# Altium footprint library PCB Footprints.PcbLib: 316 footprints (part 3 of 21)
Each footprint in its own frame and in the unit in brackets; x right, y up, seen from the top. Pads: shape width x height; smd on the part's side, far side on the other; paste and mask are expansions set on the pad; w line width, h text height; cw(c..) or ccw(c..) is an arc to the next point about the centre after c.
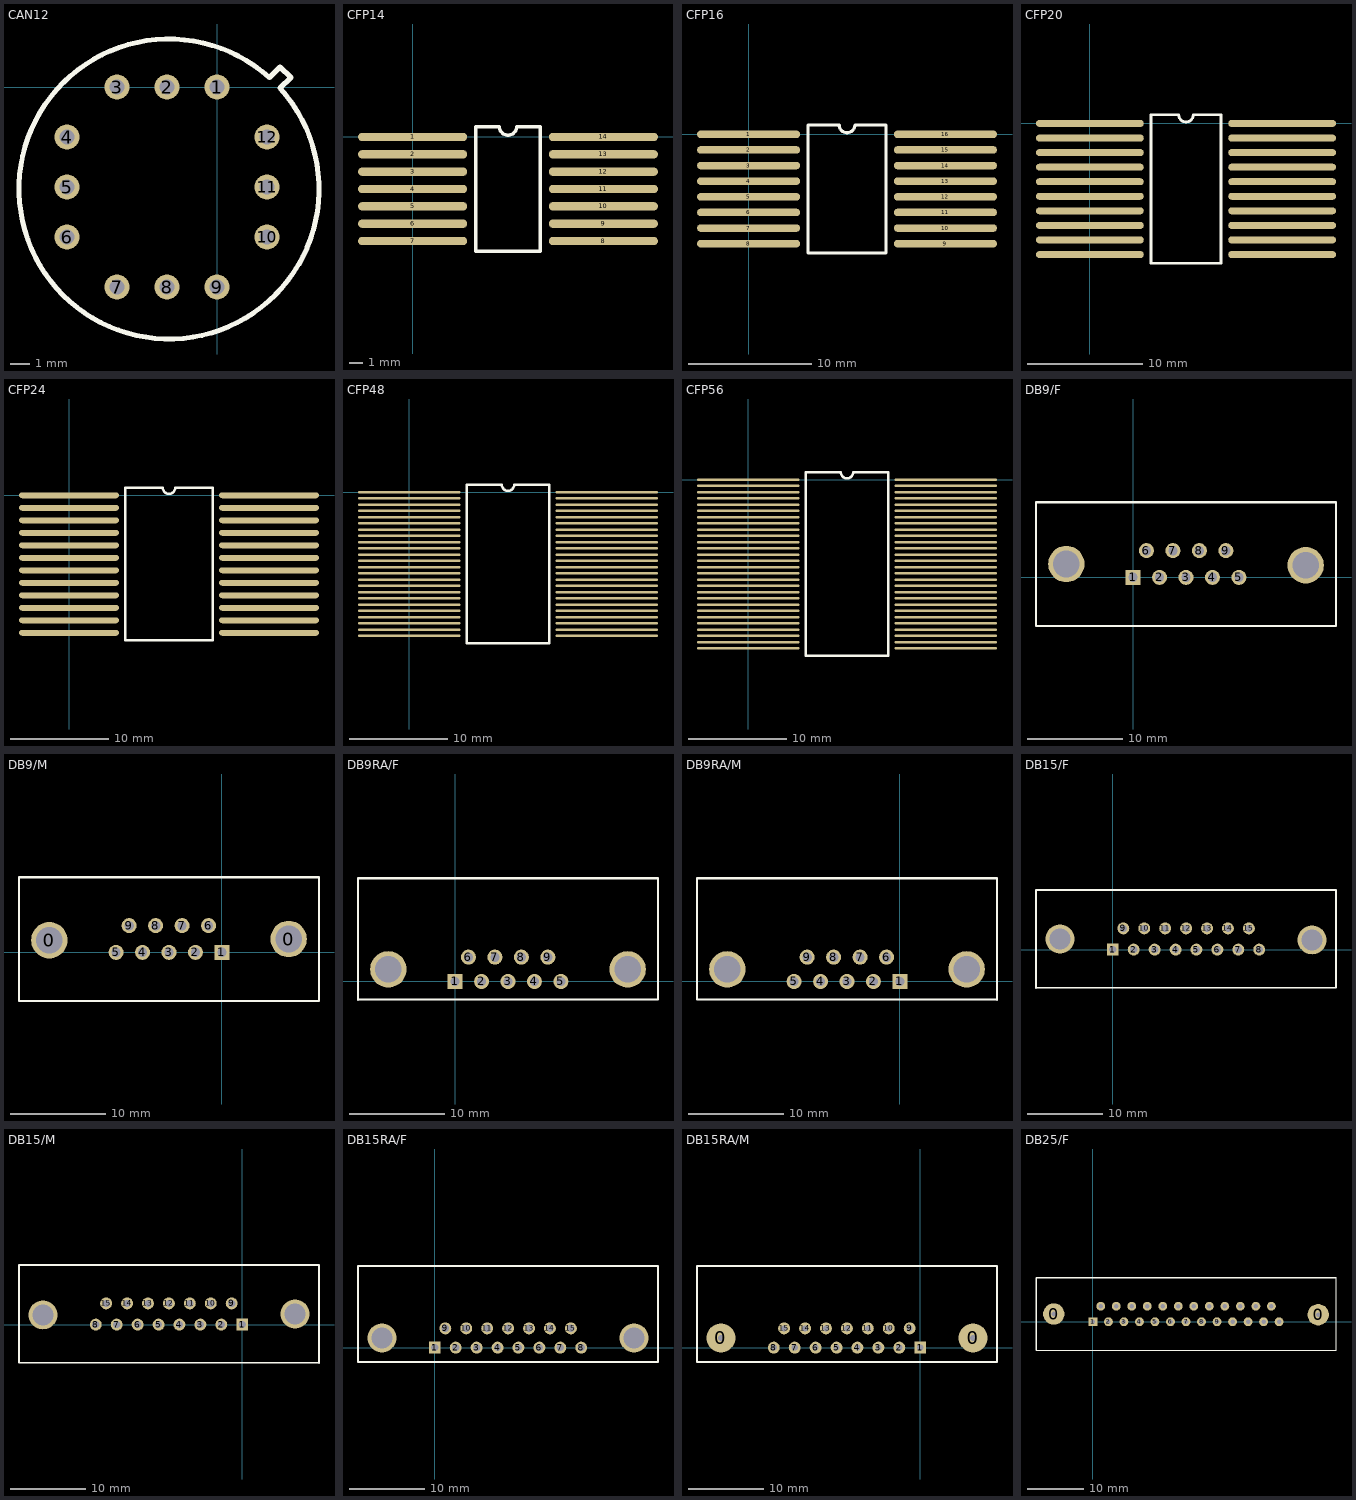
[diagram p2: the footprints below, top view; thin cyan lines are the x and y axes]

## CAN12 [mil]
pads (12):
  round 50 hole 30: 1(0,0) 2(-100,0) 3(-200,0) 4(-300,-100) 5(-300,-200) 6(-300,-300) 7(-200,-400) 8(-100,-400) 9(0,-400) 10(100,-300) 11(100,-200) 12(100,-100)
TopOverlay:
  lines w10: 104.74,18.94 ccw(c-96,-204) 126.94,-3.26 ; 105,19 126,40 148,19 126,-2

## CFP14 [mil]
pads (14):
  oval 315x24 smd: 1(0,0) 2(0,-50) 3(0,-100) 4(0,-150) 5(0,-200) 6(0,-250) 7(0,-300) 8(550,-300) 9(550,-250) 10(550,-200) 11(550,-150) 12(550,-100) 13(550,-50) 14(550,0)
TopOverlay:
  lines w10: 182,-330 368,-330 368,30 300,30 cw(c275,30) 250,30 182,30 182,-330

## CFP16 [mil]
pads (16):
  oval 330x24 smd: 1(0,0) 2(0,-50) 3(0,-100) 4(0,-150) 5(0,-200) 6(0,-250) 7(0,-300) 8(0,-350) 9(630,-350) 10(630,-300) 11(630,-250) 12(630,-200) 13(630,-150) 14(630,-100) 15(630,-50) 16(630,0)
TopOverlay:
  lines w10: 190,-380 440,-380 440,30 340,30 cw(c315,30) 290,30 190,30 190,-380

## CFP20 [mil]
pads (20):
  oval 370x24 smd: 1(0,0) 2(0,-50) 3(0,-100) 4(0,-150) 5(0,-200) 6(0,-250) 7(0,-300) 8(0,-350) 9(0,-400) 10(0,-450) 11(660,-450) 12(660,-400) 13(660,-350) 14(660,-300) 15(660,-250) 16(660,-200) 17(660,-150) 18(660,-100) 19(660,-50) 20(660,0)
TopOverlay:
  lines w10: 210,-480 450,-480 450,30 355,30 cw(c330,30) 305,30 210,30 210,-480

## CFP24 [mil]
pads (24):
  oval 400x24 smd: 1(0,0) 2(0,-50) 3(0,-100) 4(0,-150) 5(0,-200) 6(0,-250) 7(0,-300) 8(0,-350) 9(0,-400) 10(0,-450) 11(0,-500) 12(0,-550) 13(800,-550) 14(800,-500) 15(800,-450) 16(800,-400) 17(800,-350) 18(800,-300) 19(800,-250) 20(800,-200) 21(800,-150) 22(800,-100) 23(800,-50) 24(800,0)
TopOverlay:
  lines w10: 225,-580 225,30 375,30 ccw(c400,30) 425,30 575,30 575,-580 225,-580

## CFP48 [mil]
pads (48):
  oval 410x10 smd: 1(0,0) 2(0,-25) 3(0,-50) 4(0,-75) 5(0,-100) 6(0,-125) 7(0,-150) 8(0,-175) 9(0,-200) 10(0,-225) 11(0,-250) 12(0,-275) 13(0,-300) 14(0,-325) 15(0,-350) 16(0,-375) 17(0,-400) 18(0,-425) 19(0,-450) 20(0,-475) 21(0,-500) 22(0,-525) 23(0,-550) 24(0,-575) 25(790,-575) 26(790,-550) 27(790,-525) 28(790,-500) 29(790,-475) 30(790,-450) 31(790,-425) 32(790,-400) 33(790,-375) 34(790,-350) 35(790,-325) 36(790,-300) 37(790,-275) 38(790,-250) 39(790,-225) 40(790,-200) 41(790,-175) 42(790,-150) 43(790,-125) 44(790,-100) 45(790,-75) 46(790,-50) 47(790,-25) 48(790,0)
TopOverlay:
  lines w10: 230,-605 560,-605 560,30 420,30 cw(c395,30) 370,30 230,30 230,-605

## CFP56 [mil]
pads (56):
  oval 410x10 smd: 1(0,0) 2(0,-25) 3(0,-50) 4(0,-75) 5(0,-100) 6(0,-125) 7(0,-150) 8(0,-175) 9(0,-200) 10(0,-225) 11(0,-250) 12(0,-275) 13(0,-300) 14(0,-325) 15(0,-350) 16(0,-375) 17(0,-400) 18(0,-425) 19(0,-450) 20(0,-475) 21(0,-500) 22(0,-525) 23(0,-550) 24(0,-575) 25(0,-600) 26(0,-625) 27(0,-650) 28(0,-675) 29(790,-675) 30(790,-650) 31(790,-625) 32(790,-600) 33(790,-575) 34(790,-550) 35(790,-525) 36(790,-500) 37(790,-475) 38(790,-450) 39(790,-425) 40(790,-400) 41(790,-375) 42(790,-350) 43(790,-325) 44(790,-300) 45(790,-275) 46(790,-250) 47(790,-225) 48(790,-200) 49(790,-175) 50(790,-150) 51(790,-125) 52(790,-100) 53(790,-75) 54(790,-50) 55(790,-25) 56(790,0)
TopOverlay:
  lines w10: 230,-705 230,30 370,30 ccw(c395,30) 420,30 560,30 560,-705 230,-705

## DB9/F [mil]
pads (11):
  rect 62x62 hole 38: 1(0,0)
  round 62 hole 38: 2(109,0) 3(218,0) 4(327,0) 5(436,0) 6(55,110) 7(164,110) 8(273,110) 9(382,110)
  round 150 hole 110: ""(-275,55) ""(711,50)
TopOverlay:
  lines w8: -400,-200 836,-200 836,310
  lines w10: -400,-200 -400,310 836,310

## DB9/M [mil]
pads (11):
  round 150 hole 110: 0(-711,50) 0(275,55)
  rect 62x62 hole 38: 1(0,0)
  round 62 hole 38: 2(-109,0) 3(-218,0) 4(-327,0) 5(-436,0) 6(-55,110) 7(-164,110) 8(-273,110) 9(-382,110)
TopOverlay:
  lines w8: -836,310 -836,-200 400,-200
  lines w10: -836,310 400,310 400,-200

## DB9RA/F [mil]
pads (11):
  rect 62x62 hole 38: 1(0,0)
  round 62 hole 38: 2(109,0) 3(218,0) 4(327,0) 5(436,0) 6(55,100) 7(164,100) 8(273,100) 9(382,100)
  round 150 hole 110: ""(-275,50) ""(711,50)
TopOverlay:
  lines w8: -400,-75 836,-75 836,425
  lines w10: -400,-75 -400,425 836,425

## DB9RA/M [mil]
pads (11):
  rect 62x62 hole 38: 1(0,0)
  round 62 hole 38: 2(-109,0) 3(-218,0) 4(-327,0) 5(-436,0) 6(-55,100) 7(-164,100) 8(-273,100) 9(-382,100)
  round 150 hole 110: ""(-711,50) ""(275,50)
TopOverlay:
  lines w8: -836,425 -836,-75 400,-75
  lines w10: -836,425 400,425 400,-75

## DB15/F [mil]
pads (17):
  rect 62x62 hole 38: 1(0,0)
  round 62 hole 38: 2(109,0) 3(218,0) 4(327,0) 5(436,0) 6(545,0) 7(654,0) 8(763,0) 9(55,110) 10(164,110) 11(273,110) 12(382,110) 13(491,110) 14(600,110) 15(709,110)
  round 150 hole 110: ""(-275,55) ""(1038,50)
TopOverlay:
  lines w8: -400,-200 1163,-200 1163,310
  lines w10: -400,-200 -400,310 1163,310

## DB15/M [mil]
pads (17):
  rect 62x62 hole 38: 1(0,0)
  round 62 hole 38: 2(-109,0) 3(-218,0) 4(-327,0) 5(-436,0) 6(-545,0) 7(-654,0) 8(-763,0) 9(-55,110) 10(-164,110) 11(-273,110) 12(-382,110) 13(-491,110) 14(-600,110) 15(-709,110)
  round 150 hole 110: ""(-1038,50) ""(275,55)
TopOverlay:
  lines w8: -1163,310 -1163,-200 400,-200
  lines w10: -1163,310 400,310 400,-200

## DB15RA/F [mil]
pads (17):
  rect 62x62 hole 38: 1(0,0)
  round 62 hole 38: 2(109,0) 3(218,0) 4(327,0) 5(436,0) 6(545,0) 7(654,0) 8(763,0) 9(55,100) 10(164,100) 11(273,100) 12(382,100) 13(491,100) 14(600,100) 15(709,100)
  round 150 hole 110: ""(-275,50) ""(1038,50)
TopOverlay:
  lines w8: -400,-75 1163,-75 1163,425
  lines w10: -400,-75 -400,425 1163,425

## DB15RA/M [mil]
pads (17):
  round 150 hole 32: 0(-1038,50) 0(275,50)
  rect 62x62 hole 32: 1(0,0)
  round 62 hole 32: 2(-109,0) 3(-218,0) 4(-327,0) 5(-436,0) 6(-545,0) 7(-654,0) 8(-763,0) 9(-55,100) 10(-164,100) 11(-273,100) 12(-382,100) 13(-491,100) 14(-600,100) 15(-709,100)
TopOverlay:
  lines w8: -1163,425 -1163,-75 400,-75
  lines w10: -1163,425 400,425 400,-75

## DB25/F [mil]
pads (27):
  round 150 hole 32: 0(-275,55) 0(1583,50)
  rect 62x62 hole 32: 1(0,0)
  round 62 hole 32: 2(109,0) 3(218,0) 4(327,0) 5(436,0) 6(545,0) 7(654,0) 8(763,0) 9(872,0) 10(981,0) 11(1090,0) 12(1199,0) 13(1308,0) 14(55,110) 15(164,110) 16(273,110) 17(382,110) 18(491,110) 19(600,110) 20(709,110) 21(818,110) 22(927,110) 23(1036,110) 24(1145,110) 25(1254,110)
TopOverlay:
  lines w8: -400,-200 1708,-200 1708,310
  lines w10: -400,-200 -400,310 1708,310